# EAGLE library part JTAG-MICRO-2X5 (library TrackerBase2)
JTAG Connector $2.90 CONN HEADER SMD 10POS 1.27MM Connector Header Surface Mount 10 position 0.050" (1.27mm) Samtec FTSH-105-01-F-DV-K https://www.digikey.com/product-detail/en/FTSH-105-01-F-DV-K/SAM8796-ND/2649974?utm_campaign=buynow&WT.z_cid=ref_octopart_dkc_buynow&utm_medium=aggregator&curr=usd&site=us&utm_source=octopart
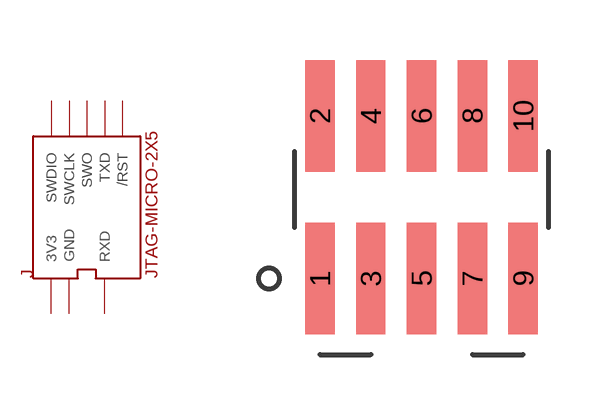
[diagram p1: symbol with the pads of JTAG-MICRO-2X5; footprint JTAG-MICRO-2X5]

Designator prefix J

## JTAG-MICRO-2X5  [JTAG-MICRO-2X5]
1  3V3  pas
2  SWDIO  pas
3  GND  pas
4  SWCLK  pas
5  GND  pas
6  SWO  pas
7  RXD  pas
8  TXD  pas
9  GND  pas
10  /RST  pas

## Footprint JTAG-MICRO-2X5 (pad centres in mm)
smd 0.737 x 2.794: 1 0,0; 2 0,4.064; 3 1.27,0; 4 1.27,4.064; 5 2.54,0; 6 2.54,4.064; 7 3.81,0; 8 3.81,4.064; 9 5.08,0; 10 5.08,4.064